# Altium schematic symbol library FIX-STD-PCB_FIXATION.SchLib: 1 symbol
Pins are listed as number, name and electrical type; pins without a type are passive.

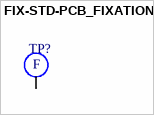
[diagram p0: symbol FIX-STD-PCB_FIXATION]

## FIX-STD-PCB_FIXATION
designator TP?  (value not drawn)
pins: 1 T
text: F